# EAGLE library part NT3H1X01 (library NXP-NT3H)
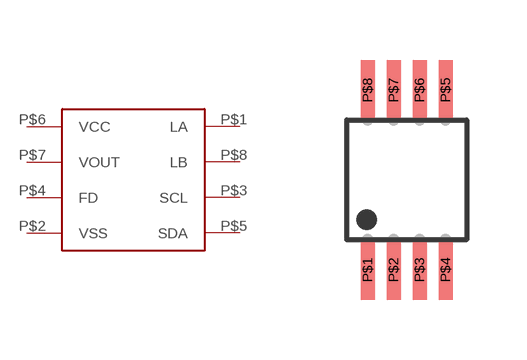
[diagram p0: symbol with the pads of TSSOP8; footprint TSSOP8]

Designator prefix -

## NT3H1X01  [TSSOP8]
P$1  LA
P$2  VSS
P$3  SCL
P$4  FD
P$5  SDA
P$6  VCC
P$7  VOUT
P$8  LB

## Footprint TSSOP8 (pad centres in mm)
smd 0.35 x 1.5: P$1 -0.975,-2.25; P$2 -0.325,-2.25; P$3 0.325,-2.25; P$4 0.975,-2.25; P$5 0.975,2.25; P$6 0.325,2.25; P$7 -0.325,2.25; P$8 -0.975,2.25